# EAGLE library part PINHD-2X5 (library pinhead)
PIN HEADER
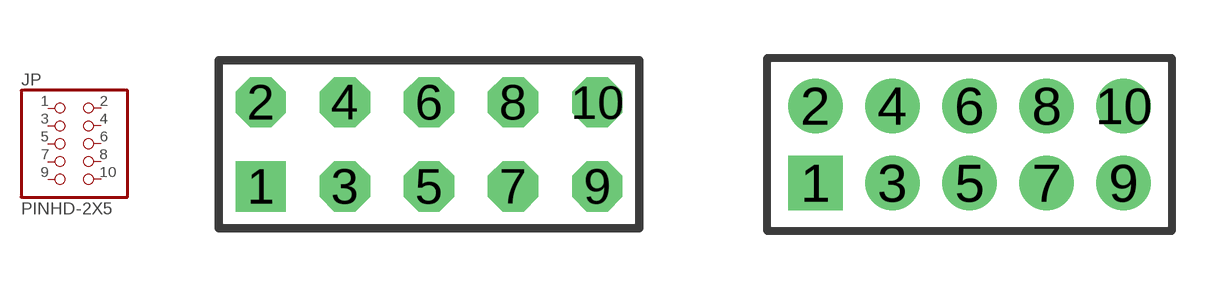
[diagram p28: symbol with the pads of 2X05; footprints 2X05, 2X05M]

Designator prefix JP

## PINHD-2X5  [2X05]
1  1  pas
2  2  pas
3  3  pas
4  4  pas
5  5  pas
6  6  pas
7  7  pas
8  8  pas
9  9  pas
10  10  pas

## PINHD-2X5M  [2X05M]
Pads as for 2X05

## Footprint 2X05 (pad centres in mm)
PIN HEADER - 0.1"
drill 1.016 square: 1 -5.08,-1.27
drill 1.016 octagon: 2 -5.08,1.27; 3 -2.54,-1.27; 4 -2.54,1.27; 5 0,-1.27; 6 0,1.27; 7 2.54,-1.27; 8 2.54,1.27; 9 5.08,-1.27; 10 5.08,1.27

## Footprint 2X05M (pad centres in mm)
PIN HEADER - 2MM"
drill 0.914 square: 1 -4,-1
drill 0.914 round: 2 -4,1; 3 -2,-1; 4 -2,1; 5 0,-1; 6 0,1; 7 2,-1; 8 2,1; 9 4,-1; 10 4,1